# Altium footprint library IPC-7359 QFN_Sq_50P_Side_M.PcbLib: 92 footprints (part 5 of 6)
Each footprint in its own frame and in the unit in brackets; x right, y up, seen from the top. Pads: shape width x height; smd on the part's side, far side on the other; paste and mask are expansions set on the pad; w line width, h text height; cw(c..) or ccw(c..) is an arc to the next point about the centre after c.
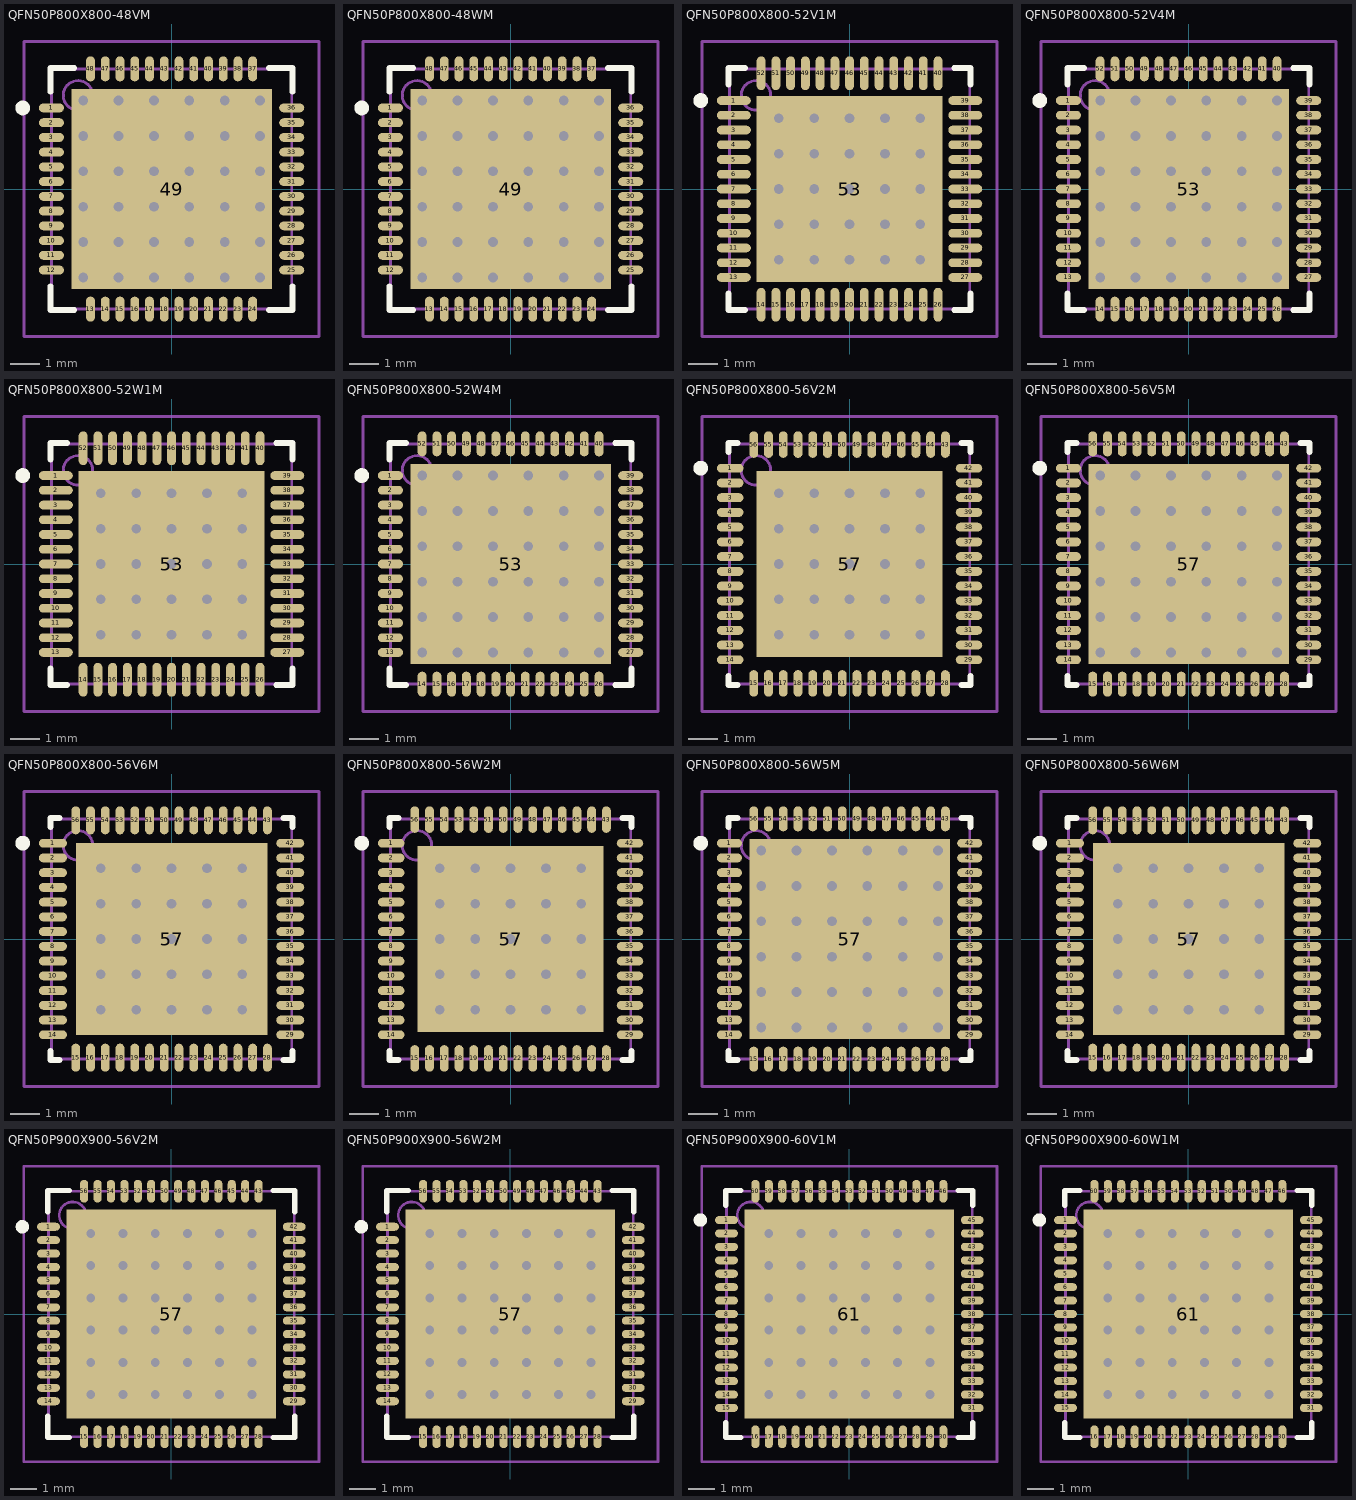
[diagram p4: the footprints below, top view; thin cyan lines are the x and y axes]

## QFN50P800X800-48VM [mm] "QFN, 48-Leads, Body 8x8mm, Pitch 0.5mm, IPC Low Density"
height 1
pads (49):
  oval 0.85x0.3 smd: 1(-4.075,2.75) 2(-4.075,2.25) 3(-4.075,1.75) 4(-4.075,1.25) 5(-4.075,0.75) 6(-4.075,0.25) 7(-4.075,-0.25) 8(-4.075,-0.75) 9(-4.075,-1.25) 10(-4.075,-1.75) 11(-4.075,-2.25) 12(-4.075,-2.75) 25(4.075,-2.75) 26(4.075,-2.25) 27(4.075,-1.75) 28(4.075,-1.25) 29(4.075,-0.75) 30(4.075,-0.25) 31(4.075,0.25) 32(4.075,0.75) 33(4.075,1.25) 34(4.075,1.75) 35(4.075,2.25) 36(4.075,2.75)
  oval 0.3x0.85 smd: 13(-2.75,-4.075) 14(-2.25,-4.075) 15(-1.75,-4.075) 16(-1.25,-4.075) 17(-0.75,-4.075) 18(-0.25,-4.075) 19(0.25,-4.075) 20(0.75,-4.075) 21(1.25,-4.075) 22(1.75,-4.075) 23(2.25,-4.075) 24(2.75,-4.075) 37(2.75,4.075) 38(2.25,4.075) 39(1.75,4.075) 40(1.25,4.075) 41(0.75,4.075) 42(0.25,4.075) 43(-0.25,4.075) 44(-0.75,4.075) 45(-1.25,4.075) 46(-1.75,4.075) 47(-2.25,4.075) 48(-2.75,4.075)
  rect 6.8x6.8 smd: 49(0,0)
via 3,-3 diameter 0.66 hole 0.33
via 1.8,-3 diameter 0.66 hole 0.33
via 0.6,-3 diameter 0.66 hole 0.33
via -0.6,-3 diameter 0.66 hole 0.33
via -1.8,-3 diameter 0.66 hole 0.33
via -3,-3 diameter 0.66 hole 0.33
via 3,-1.8 diameter 0.66 hole 0.33
via 1.8,-1.8 diameter 0.66 hole 0.33
via 0.6,-1.8 diameter 0.66 hole 0.33
via -0.6,-1.8 diameter 0.66 hole 0.33
via -1.8,-1.8 diameter 0.66 hole 0.33
via -3,-1.8 diameter 0.66 hole 0.33
via 3,-0.6 diameter 0.66 hole 0.33
via 1.8,-0.6 diameter 0.66 hole 0.33
via 0.6,-0.6 diameter 0.66 hole 0.33
via -0.6,-0.6 diameter 0.66 hole 0.33
via -1.8,-0.6 diameter 0.66 hole 0.33
via -3,-0.6 diameter 0.66 hole 0.33
via 3,0.6 diameter 0.66 hole 0.33
via 1.8,0.6 diameter 0.66 hole 0.33
via 0.6,0.6 diameter 0.66 hole 0.33
via -0.6,0.6 diameter 0.66 hole 0.33
via -1.8,0.6 diameter 0.66 hole 0.33
via -3,0.6 diameter 0.66 hole 0.33
via 3,1.8 diameter 0.66 hole 0.33
via 1.8,1.8 diameter 0.66 hole 0.33
via 0.6,1.8 diameter 0.66 hole 0.33
via -0.6,1.8 diameter 0.66 hole 0.33
via -1.8,1.8 diameter 0.66 hole 0.33
via -3,1.8 diameter 0.66 hole 0.33
via 3,3 diameter 0.66 hole 0.33
via 1.8,3 diameter 0.66 hole 0.33
via 0.6,3 diameter 0.66 hole 0.33
via -0.6,3 diameter 0.66 hole 0.33
via -1.8,3 diameter 0.66 hole 0.33
via -3,3 diameter 0.66 hole 0.33
Top Overlay:
  circle w0.25: c-5.05,2.75 r0.125
  lines w0.2: -4.1,-3.3 -4.1,-4.1 -3.3,-4.1 ; -4.1,3.3 -4.1,4.1 -3.3,4.1 ; 3.3,-4.1 4.1,-4.1 4.1,-3.3 ; 3.3,4.1 4.1,4.1 4.1,3.3
Mechanical 13:
  circle w0.1: c-3.175,3.175 r0.5
  lines w0.1: -4.075,-4.075 4.075,-4.075 4.075,4.075 -4.075,4.075 -4.075,-4.075
Mechanical 15:
  lines w0.1: -0.5,0 0.5,0 ; 0,-0.5 0,0.5 ; -5,-5 5,-5 5,5 -5,5 -5,-5
3D body: height 1, standoff 0, extent -4.075,-4.075 4.075,4.075

## QFN50P800X800-48WM [mm] "QFN, 48-Leads, Body 8x8mm, Pitch 0.5mm, IPC Low Density"
height 0.8
pads (49):
  oval 0.85x0.3 smd: 1(-4.075,2.75) 2(-4.075,2.25) 3(-4.075,1.75) 4(-4.075,1.25) 5(-4.075,0.75) 6(-4.075,0.25) 7(-4.075,-0.25) 8(-4.075,-0.75) 9(-4.075,-1.25) 10(-4.075,-1.75) 11(-4.075,-2.25) 12(-4.075,-2.75) 25(4.075,-2.75) 26(4.075,-2.25) 27(4.075,-1.75) 28(4.075,-1.25) 29(4.075,-0.75) 30(4.075,-0.25) 31(4.075,0.25) 32(4.075,0.75) 33(4.075,1.25) 34(4.075,1.75) 35(4.075,2.25) 36(4.075,2.75)
  oval 0.3x0.85 smd: 13(-2.75,-4.075) 14(-2.25,-4.075) 15(-1.75,-4.075) 16(-1.25,-4.075) 17(-0.75,-4.075) 18(-0.25,-4.075) 19(0.25,-4.075) 20(0.75,-4.075) 21(1.25,-4.075) 22(1.75,-4.075) 23(2.25,-4.075) 24(2.75,-4.075) 37(2.75,4.075) 38(2.25,4.075) 39(1.75,4.075) 40(1.25,4.075) 41(0.75,4.075) 42(0.25,4.075) 43(-0.25,4.075) 44(-0.75,4.075) 45(-1.25,4.075) 46(-1.75,4.075) 47(-2.25,4.075) 48(-2.75,4.075)
  rect 6.8x6.8 smd: 49(0,0)
via 3,-3 diameter 0.66 hole 0.33
via 1.8,-3 diameter 0.66 hole 0.33
via 0.6,-3 diameter 0.66 hole 0.33
via -0.6,-3 diameter 0.66 hole 0.33
via -1.8,-3 diameter 0.66 hole 0.33
via -3,-3 diameter 0.66 hole 0.33
via 3,-1.8 diameter 0.66 hole 0.33
via 1.8,-1.8 diameter 0.66 hole 0.33
via 0.6,-1.8 diameter 0.66 hole 0.33
via -0.6,-1.8 diameter 0.66 hole 0.33
via -1.8,-1.8 diameter 0.66 hole 0.33
via -3,-1.8 diameter 0.66 hole 0.33
via 3,-0.6 diameter 0.66 hole 0.33
via 1.8,-0.6 diameter 0.66 hole 0.33
via 0.6,-0.6 diameter 0.66 hole 0.33
via -0.6,-0.6 diameter 0.66 hole 0.33
via -1.8,-0.6 diameter 0.66 hole 0.33
via -3,-0.6 diameter 0.66 hole 0.33
via 3,0.6 diameter 0.66 hole 0.33
via 1.8,0.6 diameter 0.66 hole 0.33
via 0.6,0.6 diameter 0.66 hole 0.33
via -0.6,0.6 diameter 0.66 hole 0.33
via -1.8,0.6 diameter 0.66 hole 0.33
via -3,0.6 diameter 0.66 hole 0.33
via 3,1.8 diameter 0.66 hole 0.33
via 1.8,1.8 diameter 0.66 hole 0.33
via 0.6,1.8 diameter 0.66 hole 0.33
via -0.6,1.8 diameter 0.66 hole 0.33
via -1.8,1.8 diameter 0.66 hole 0.33
via -3,1.8 diameter 0.66 hole 0.33
via 3,3 diameter 0.66 hole 0.33
via 1.8,3 diameter 0.66 hole 0.33
via 0.6,3 diameter 0.66 hole 0.33
via -0.6,3 diameter 0.66 hole 0.33
via -1.8,3 diameter 0.66 hole 0.33
via -3,3 diameter 0.66 hole 0.33
Top Overlay:
  circle w0.25: c-5.05,2.75 r0.125
  lines w0.2: -4.1,-3.3 -4.1,-4.1 -3.3,-4.1 ; -4.1,3.3 -4.1,4.1 -3.3,4.1 ; 3.3,-4.1 4.1,-4.1 4.1,-3.3 ; 3.3,4.1 4.1,4.1 4.1,3.3
Mechanical 13:
  circle w0.1: c-3.175,3.175 r0.5
  lines w0.1: -4.075,-4.075 4.075,-4.075 4.075,4.075 -4.075,4.075 -4.075,-4.075
Mechanical 15:
  lines w0.1: -0.5,0 0.5,0 ; 0,-0.5 0,0.5 ; -5,-5 5,-5 5,5 -5,5 -5,-5
3D body: height 0.8, standoff 0, extent -4.075,-4.075 4.075,4.075

## QFN50P800X800-52V1M [mm] "QFN, 52-Leads, Body 8x8mm, Pitch 0.5mm, IPC Low Density"
height 1
pads (53):
  oval 1.15x0.3 smd: 1(-3.925,3) 2(-3.925,2.5) 3(-3.925,2) 4(-3.925,1.5) 5(-3.925,1) 6(-3.925,0.5) 7(-3.925,0) 8(-3.925,-0.5) 9(-3.925,-1) 10(-3.925,-1.5) 11(-3.925,-2) 12(-3.925,-2.5) 13(-3.925,-3) 27(3.925,-3) 28(3.925,-2.5) 29(3.925,-2) 30(3.925,-1.5) 31(3.925,-1) 32(3.925,-0.5) 33(3.925,0) 34(3.925,0.5) 35(3.925,1) 36(3.925,1.5) 37(3.925,2) 38(3.925,2.5) 39(3.925,3)
  oval 0.3x1.15 smd: 14(-3,-3.925) 15(-2.5,-3.925) 16(-2,-3.925) 17(-1.5,-3.925) 18(-1,-3.925) 19(-0.5,-3.925) 20(0,-3.925) 21(0.5,-3.925) 22(1,-3.925) 23(1.5,-3.925) 24(2,-3.925) 25(2.5,-3.925) 26(3,-3.925) 40(3,3.925) 41(2.5,3.925) 42(2,3.925) 43(1.5,3.925) 44(1,3.925) 45(0.5,3.925) 46(0,3.925) 47(-0.5,3.925) 48(-1,3.925) 49(-1.5,3.925) 50(-2,3.925) 51(-2.5,3.925) 52(-3,3.925)
  rect 6.3x6.3 smd: 53(0,0)
via 2.4,-2.4 diameter 0.66 hole 0.33
via 1.2,-2.4 diameter 0.66 hole 0.33
via 0,-2.4 diameter 0.66 hole 0.33
via -1.2,-2.4 diameter 0.66 hole 0.33
via -2.4,-2.4 diameter 0.66 hole 0.33
via 2.4,-1.2 diameter 0.66 hole 0.33
via 1.2,-1.2 diameter 0.66 hole 0.33
via 0,-1.2 diameter 0.66 hole 0.33
via -1.2,-1.2 diameter 0.66 hole 0.33
via -2.4,-1.2 diameter 0.66 hole 0.33
via 2.4,0 diameter 0.66 hole 0.33
via 1.2,0 diameter 0.66 hole 0.33
via 0,0 diameter 0.66 hole 0.33
via -1.2,0 diameter 0.66 hole 0.33
via -2.4,0 diameter 0.66 hole 0.33
via 2.4,1.2 diameter 0.66 hole 0.33
via 1.2,1.2 diameter 0.66 hole 0.33
via 0,1.2 diameter 0.66 hole 0.33
via -1.2,1.2 diameter 0.66 hole 0.33
via -2.4,1.2 diameter 0.66 hole 0.33
via 2.4,2.4 diameter 0.66 hole 0.33
via 1.2,2.4 diameter 0.66 hole 0.33
via 0,2.4 diameter 0.66 hole 0.33
via -1.2,2.4 diameter 0.66 hole 0.33
via -2.4,2.4 diameter 0.66 hole 0.33
Top Overlay:
  circle w0.25: c-5.05,3 r0.125
  lines w0.2: -4.1,-3.55 -4.1,-4.1 -3.55,-4.1 ; -4.1,3.55 -4.1,4.1 -3.55,4.1 ; 3.55,-4.1 4.1,-4.1 4.1,-3.55 ; 3.55,4.1 4.1,4.1 4.1,3.55
Mechanical 13:
  circle w0.1: c-3.175,3.175 r0.5
  lines w0.1: -4.075,-4.075 4.075,-4.075 4.075,4.075 -4.075,4.075 -4.075,-4.075
Mechanical 15:
  lines w0.1: -0.5,0 0.5,0 ; 0,-0.5 0,0.5 ; -5,-5 5,-5 5,5 -5,5 -5,-5
3D body: height 1, standoff 0, extent -4.075,-4.075 4.075,4.075

## QFN50P800X800-52V4M [mm] "QFN, 52-Leads, Body 8x8mm, Pitch 0.5mm, IPC Low Density"
height 1
pads (53):
  oval 0.85x0.3 smd: 1(-4.075,3) 2(-4.075,2.5) 3(-4.075,2) 4(-4.075,1.5) 5(-4.075,1) 6(-4.075,0.5) 7(-4.075,0) 8(-4.075,-0.5) 9(-4.075,-1) 10(-4.075,-1.5) 11(-4.075,-2) 12(-4.075,-2.5) 13(-4.075,-3) 27(4.075,-3) 28(4.075,-2.5) 29(4.075,-2) 30(4.075,-1.5) 31(4.075,-1) 32(4.075,-0.5) 33(4.075,0) 34(4.075,0.5) 35(4.075,1) 36(4.075,1.5) 37(4.075,2) 38(4.075,2.5) 39(4.075,3)
  oval 0.3x0.85 smd: 14(-3,-4.075) 15(-2.5,-4.075) 16(-2,-4.075) 17(-1.5,-4.075) 18(-1,-4.075) 19(-0.5,-4.075) 20(0,-4.075) 21(0.5,-4.075) 22(1,-4.075) 23(1.5,-4.075) 24(2,-4.075) 25(2.5,-4.075) 26(3,-4.075) 40(3,4.075) 41(2.5,4.075) 42(2,4.075) 43(1.5,4.075) 44(1,4.075) 45(0.5,4.075) 46(0,4.075) 47(-0.5,4.075) 48(-1,4.075) 49(-1.5,4.075) 50(-2,4.075) 51(-2.5,4.075) 52(-3,4.075)
  rect 6.8x6.8 smd: 53(0,0)
via 3,-3 diameter 0.66 hole 0.33
via 1.8,-3 diameter 0.66 hole 0.33
via 0.6,-3 diameter 0.66 hole 0.33
via -0.6,-3 diameter 0.66 hole 0.33
via -1.8,-3 diameter 0.66 hole 0.33
via -3,-3 diameter 0.66 hole 0.33
via 3,-1.8 diameter 0.66 hole 0.33
via 1.8,-1.8 diameter 0.66 hole 0.33
via 0.6,-1.8 diameter 0.66 hole 0.33
via -0.6,-1.8 diameter 0.66 hole 0.33
via -1.8,-1.8 diameter 0.66 hole 0.33
via -3,-1.8 diameter 0.66 hole 0.33
via 3,-0.6 diameter 0.66 hole 0.33
via 1.8,-0.6 diameter 0.66 hole 0.33
via 0.6,-0.6 diameter 0.66 hole 0.33
via -0.6,-0.6 diameter 0.66 hole 0.33
via -1.8,-0.6 diameter 0.66 hole 0.33
via -3,-0.6 diameter 0.66 hole 0.33
via 3,0.6 diameter 0.66 hole 0.33
via 1.8,0.6 diameter 0.66 hole 0.33
via 0.6,0.6 diameter 0.66 hole 0.33
via -0.6,0.6 diameter 0.66 hole 0.33
via -1.8,0.6 diameter 0.66 hole 0.33
via -3,0.6 diameter 0.66 hole 0.33
via 3,1.8 diameter 0.66 hole 0.33
via 1.8,1.8 diameter 0.66 hole 0.33
via 0.6,1.8 diameter 0.66 hole 0.33
via -0.6,1.8 diameter 0.66 hole 0.33
via -1.8,1.8 diameter 0.66 hole 0.33
via -3,1.8 diameter 0.66 hole 0.33
via 3,3 diameter 0.66 hole 0.33
via 1.8,3 diameter 0.66 hole 0.33
via 0.6,3 diameter 0.66 hole 0.33
via -0.6,3 diameter 0.66 hole 0.33
via -1.8,3 diameter 0.66 hole 0.33
via -3,3 diameter 0.66 hole 0.33
Top Overlay:
  circle w0.25: c-5.05,3 r0.125
  lines w0.2: -4.1,-3.55 -4.1,-4.1 -3.55,-4.1 ; -4.1,3.55 -4.1,4.1 -3.55,4.1 ; 3.55,-4.1 4.1,-4.1 4.1,-3.55 ; 3.55,4.1 4.1,4.1 4.1,3.55
Mechanical 13:
  circle w0.1: c-3.175,3.175 r0.5
  lines w0.1: -4.075,-4.075 4.075,-4.075 4.075,4.075 -4.075,4.075 -4.075,-4.075
Mechanical 15:
  lines w0.1: -0.5,0 0.5,0 ; 0,-0.5 0,0.5 ; -5,-5 5,-5 5,5 -5,5 -5,-5
3D body: height 1, standoff 0, extent -4.075,-4.075 4.075,4.075

## QFN50P800X800-52W1M [mm] "QFN, 52-Leads, Body 8x8mm, Pitch 0.5mm, IPC Low Density"
height 0.8
pads (53):
  oval 1.15x0.3 smd: 1(-3.925,3) 2(-3.925,2.5) 3(-3.925,2) 4(-3.925,1.5) 5(-3.925,1) 6(-3.925,0.5) 7(-3.925,0) 8(-3.925,-0.5) 9(-3.925,-1) 10(-3.925,-1.5) 11(-3.925,-2) 12(-3.925,-2.5) 13(-3.925,-3) 27(3.925,-3) 28(3.925,-2.5) 29(3.925,-2) 30(3.925,-1.5) 31(3.925,-1) 32(3.925,-0.5) 33(3.925,0) 34(3.925,0.5) 35(3.925,1) 36(3.925,1.5) 37(3.925,2) 38(3.925,2.5) 39(3.925,3)
  oval 0.3x1.15 smd: 14(-3,-3.925) 15(-2.5,-3.925) 16(-2,-3.925) 17(-1.5,-3.925) 18(-1,-3.925) 19(-0.5,-3.925) 20(0,-3.925) 21(0.5,-3.925) 22(1,-3.925) 23(1.5,-3.925) 24(2,-3.925) 25(2.5,-3.925) 26(3,-3.925) 40(3,3.925) 41(2.5,3.925) 42(2,3.925) 43(1.5,3.925) 44(1,3.925) 45(0.5,3.925) 46(0,3.925) 47(-0.5,3.925) 48(-1,3.925) 49(-1.5,3.925) 50(-2,3.925) 51(-2.5,3.925) 52(-3,3.925)
  rect 6.3x6.3 smd: 53(0,0)
via 2.4,-2.4 diameter 0.66 hole 0.33
via 1.2,-2.4 diameter 0.66 hole 0.33
via 0,-2.4 diameter 0.66 hole 0.33
via -1.2,-2.4 diameter 0.66 hole 0.33
via -2.4,-2.4 diameter 0.66 hole 0.33
via 2.4,-1.2 diameter 0.66 hole 0.33
via 1.2,-1.2 diameter 0.66 hole 0.33
via 0,-1.2 diameter 0.66 hole 0.33
via -1.2,-1.2 diameter 0.66 hole 0.33
via -2.4,-1.2 diameter 0.66 hole 0.33
via 2.4,0 diameter 0.66 hole 0.33
via 1.2,0 diameter 0.66 hole 0.33
via 0,0 diameter 0.66 hole 0.33
via -1.2,0 diameter 0.66 hole 0.33
via -2.4,0 diameter 0.66 hole 0.33
via 2.4,1.2 diameter 0.66 hole 0.33
via 1.2,1.2 diameter 0.66 hole 0.33
via 0,1.2 diameter 0.66 hole 0.33
via -1.2,1.2 diameter 0.66 hole 0.33
via -2.4,1.2 diameter 0.66 hole 0.33
via 2.4,2.4 diameter 0.66 hole 0.33
via 1.2,2.4 diameter 0.66 hole 0.33
via 0,2.4 diameter 0.66 hole 0.33
via -1.2,2.4 diameter 0.66 hole 0.33
via -2.4,2.4 diameter 0.66 hole 0.33
Top Overlay:
  circle w0.25: c-5.05,3 r0.125
  lines w0.2: -4.1,-3.55 -4.1,-4.1 -3.55,-4.1 ; -4.1,3.55 -4.1,4.1 -3.55,4.1 ; 3.55,-4.1 4.1,-4.1 4.1,-3.55 ; 3.55,4.1 4.1,4.1 4.1,3.55
Mechanical 13:
  circle w0.1: c-3.175,3.175 r0.5
  lines w0.1: -4.075,-4.075 4.075,-4.075 4.075,4.075 -4.075,4.075 -4.075,-4.075
Mechanical 15:
  lines w0.1: -0.5,0 0.5,0 ; 0,-0.5 0,0.5 ; -5,-5 5,-5 5,5 -5,5 -5,-5
3D body: height 0.8, standoff 0, extent -4.075,-4.075 4.075,4.075

## QFN50P800X800-52W4M [mm] "QFN, 52-Leads, Body 8x8mm, Pitch 0.5mm, IPC Low Density"
height 0.8
pads (53):
  oval 0.85x0.3 smd: 1(-4.075,3) 2(-4.075,2.5) 3(-4.075,2) 4(-4.075,1.5) 5(-4.075,1) 6(-4.075,0.5) 7(-4.075,0) 8(-4.075,-0.5) 9(-4.075,-1) 10(-4.075,-1.5) 11(-4.075,-2) 12(-4.075,-2.5) 13(-4.075,-3) 27(4.075,-3) 28(4.075,-2.5) 29(4.075,-2) 30(4.075,-1.5) 31(4.075,-1) 32(4.075,-0.5) 33(4.075,0) 34(4.075,0.5) 35(4.075,1) 36(4.075,1.5) 37(4.075,2) 38(4.075,2.5) 39(4.075,3)
  oval 0.3x0.85 smd: 14(-3,-4.075) 15(-2.5,-4.075) 16(-2,-4.075) 17(-1.5,-4.075) 18(-1,-4.075) 19(-0.5,-4.075) 20(0,-4.075) 21(0.5,-4.075) 22(1,-4.075) 23(1.5,-4.075) 24(2,-4.075) 25(2.5,-4.075) 26(3,-4.075) 40(3,4.075) 41(2.5,4.075) 42(2,4.075) 43(1.5,4.075) 44(1,4.075) 45(0.5,4.075) 46(0,4.075) 47(-0.5,4.075) 48(-1,4.075) 49(-1.5,4.075) 50(-2,4.075) 51(-2.5,4.075) 52(-3,4.075)
  rect 6.8x6.8 smd: 53(0,0)
via 3,-3 diameter 0.66 hole 0.33
via 1.8,-3 diameter 0.66 hole 0.33
via 0.6,-3 diameter 0.66 hole 0.33
via -0.6,-3 diameter 0.66 hole 0.33
via -1.8,-3 diameter 0.66 hole 0.33
via -3,-3 diameter 0.66 hole 0.33
via 3,-1.8 diameter 0.66 hole 0.33
via 1.8,-1.8 diameter 0.66 hole 0.33
via 0.6,-1.8 diameter 0.66 hole 0.33
via -0.6,-1.8 diameter 0.66 hole 0.33
via -1.8,-1.8 diameter 0.66 hole 0.33
via -3,-1.8 diameter 0.66 hole 0.33
via 3,-0.6 diameter 0.66 hole 0.33
via 1.8,-0.6 diameter 0.66 hole 0.33
via 0.6,-0.6 diameter 0.66 hole 0.33
via -0.6,-0.6 diameter 0.66 hole 0.33
via -1.8,-0.6 diameter 0.66 hole 0.33
via -3,-0.6 diameter 0.66 hole 0.33
via 3,0.6 diameter 0.66 hole 0.33
via 1.8,0.6 diameter 0.66 hole 0.33
via 0.6,0.6 diameter 0.66 hole 0.33
via -0.6,0.6 diameter 0.66 hole 0.33
via -1.8,0.6 diameter 0.66 hole 0.33
via -3,0.6 diameter 0.66 hole 0.33
via 3,1.8 diameter 0.66 hole 0.33
via 1.8,1.8 diameter 0.66 hole 0.33
via 0.6,1.8 diameter 0.66 hole 0.33
via -0.6,1.8 diameter 0.66 hole 0.33
via -1.8,1.8 diameter 0.66 hole 0.33
via -3,1.8 diameter 0.66 hole 0.33
via 3,3 diameter 0.66 hole 0.33
via 1.8,3 diameter 0.66 hole 0.33
via 0.6,3 diameter 0.66 hole 0.33
via -0.6,3 diameter 0.66 hole 0.33
via -1.8,3 diameter 0.66 hole 0.33
via -3,3 diameter 0.66 hole 0.33
Top Overlay:
  circle w0.25: c-5.05,3 r0.125
  lines w0.2: -4.1,-3.55 -4.1,-4.1 -3.55,-4.1 ; -4.1,3.55 -4.1,4.1 -3.55,4.1 ; 3.55,-4.1 4.1,-4.1 4.1,-3.55 ; 3.55,4.1 4.1,4.1 4.1,3.55
Mechanical 13:
  circle w0.1: c-3.175,3.175 r0.5
  lines w0.1: -4.075,-4.075 4.075,-4.075 4.075,4.075 -4.075,4.075 -4.075,-4.075
Mechanical 15:
  lines w0.1: -0.5,0 0.5,0 ; 0,-0.5 0,0.5 ; -5,-5 5,-5 5,5 -5,5 -5,-5
3D body: height 0.8, standoff 0, extent -4.075,-4.075 4.075,4.075

## QFN50P800X800-56V2M [mm] "QFN, 56-Leads, Body 8x8mm, Pitch 0.5mm, IPC Low Density"
height 1
pads (57):
  oval 0.9x0.3 smd: 1(-4.05,3.25) 2(-4.05,2.75) 3(-4.05,2.25) 4(-4.05,1.75) 5(-4.05,1.25) 6(-4.05,0.75) 7(-4.05,0.25) 8(-4.05,-0.25) 9(-4.05,-0.75) 10(-4.05,-1.25) 11(-4.05,-1.75) 12(-4.05,-2.25) 13(-4.05,-2.75) 14(-4.05,-3.25) 29(4.05,-3.25) 30(4.05,-2.75) 31(4.05,-2.25) 32(4.05,-1.75) 33(4.05,-1.25) 34(4.05,-0.75) 35(4.05,-0.25) 36(4.05,0.25) 37(4.05,0.75) 38(4.05,1.25) 39(4.05,1.75) 40(4.05,2.25) 41(4.05,2.75) 42(4.05,3.25)
  oval 0.3x0.9 smd: 15(-3.25,-4.05) 16(-2.75,-4.05) 17(-2.25,-4.05) 18(-1.75,-4.05) 19(-1.25,-4.05) 20(-0.75,-4.05) 21(-0.25,-4.05) 22(0.25,-4.05) 23(0.75,-4.05) 24(1.25,-4.05) 25(1.75,-4.05) 26(2.25,-4.05) 27(2.75,-4.05) 28(3.25,-4.05) 43(3.25,4.05) 44(2.75,4.05) 45(2.25,4.05) 46(1.75,4.05) 47(1.25,4.05) 48(0.75,4.05) 49(0.25,4.05) 50(-0.25,4.05) 51(-0.75,4.05) 52(-1.25,4.05) 53(-1.75,4.05) 54(-2.25,4.05) 55(-2.75,4.05) 56(-3.25,4.05)
  rect 6.3x6.3 smd: 57(0,0)
via 2.4,-2.4 diameter 0.66 hole 0.33
via 1.2,-2.4 diameter 0.66 hole 0.33
via 0,-2.4 diameter 0.66 hole 0.33
via -1.2,-2.4 diameter 0.66 hole 0.33
via -2.4,-2.4 diameter 0.66 hole 0.33
via 2.4,-1.2 diameter 0.66 hole 0.33
via 1.2,-1.2 diameter 0.66 hole 0.33
via 0,-1.2 diameter 0.66 hole 0.33
via -1.2,-1.2 diameter 0.66 hole 0.33
via -2.4,-1.2 diameter 0.66 hole 0.33
via 2.4,0 diameter 0.66 hole 0.33
via 1.2,0 diameter 0.66 hole 0.33
via 0,0 diameter 0.66 hole 0.33
via -1.2,0 diameter 0.66 hole 0.33
via -2.4,0 diameter 0.66 hole 0.33
via 2.4,1.2 diameter 0.66 hole 0.33
via 1.2,1.2 diameter 0.66 hole 0.33
via 0,1.2 diameter 0.66 hole 0.33
via -1.2,1.2 diameter 0.66 hole 0.33
via -2.4,1.2 diameter 0.66 hole 0.33
via 2.4,2.4 diameter 0.66 hole 0.33
via 1.2,2.4 diameter 0.66 hole 0.33
via 0,2.4 diameter 0.66 hole 0.33
via -1.2,2.4 diameter 0.66 hole 0.33
via -2.4,2.4 diameter 0.66 hole 0.33
Top Overlay:
  circle w0.25: c-5.05,3.25 r0.125
  lines w0.2: -4.1,-3.8 -4.1,-4.1 -3.8,-4.1 ; -4.1,3.8 -4.1,4.1 -3.8,4.1 ; 3.8,-4.1 4.1,-4.1 4.1,-3.8 ; 3.8,4.1 4.1,4.1 4.1,3.8
Mechanical 13:
  circle w0.1: c-3.175,3.175 r0.5
  lines w0.1: -4.075,-4.075 4.075,-4.075 4.075,4.075 -4.075,4.075 -4.075,-4.075
Mechanical 15:
  lines w0.1: -0.5,0 0.5,0 ; 0,-0.5 0,0.5 ; -5,-5 5,-5 5,5 -5,5 -5,-5
3D body: height 1, standoff 0, extent -4.075,-4.075 4.075,4.075

## QFN50P800X800-56V5M [mm] "QFN, 56-Leads, Body 8x8mm, Pitch 0.5mm, IPC Low Density"
height 1
pads (57):
  oval 0.85x0.3 smd: 1(-4.075,3.25) 2(-4.075,2.75) 3(-4.075,2.25) 4(-4.075,1.75) 5(-4.075,1.25) 6(-4.075,0.75) 7(-4.075,0.25) 8(-4.075,-0.25) 9(-4.075,-0.75) 10(-4.075,-1.25) 11(-4.075,-1.75) 12(-4.075,-2.25) 13(-4.075,-2.75) 14(-4.075,-3.25) 29(4.075,-3.25) 30(4.075,-2.75) 31(4.075,-2.25) 32(4.075,-1.75) 33(4.075,-1.25) 34(4.075,-0.75) 35(4.075,-0.25) 36(4.075,0.25) 37(4.075,0.75) 38(4.075,1.25) 39(4.075,1.75) 40(4.075,2.25) 41(4.075,2.75) 42(4.075,3.25)
  oval 0.3x0.85 smd: 15(-3.25,-4.075) 16(-2.75,-4.075) 17(-2.25,-4.075) 18(-1.75,-4.075) 19(-1.25,-4.075) 20(-0.75,-4.075) 21(-0.25,-4.075) 22(0.25,-4.075) 23(0.75,-4.075) 24(1.25,-4.075) 25(1.75,-4.075) 26(2.25,-4.075) 27(2.75,-4.075) 28(3.25,-4.075) 43(3.25,4.075) 44(2.75,4.075) 45(2.25,4.075) 46(1.75,4.075) 47(1.25,4.075) 48(0.75,4.075) 49(0.25,4.075) 50(-0.25,4.075) 51(-0.75,4.075) 52(-1.25,4.075) 53(-1.75,4.075) 54(-2.25,4.075) 55(-2.75,4.075) 56(-3.25,4.075)
  rect 6.8x6.8 smd: 57(0,0)
via 3,-3 diameter 0.66 hole 0.33
via 1.8,-3 diameter 0.66 hole 0.33
via 0.6,-3 diameter 0.66 hole 0.33
via -0.6,-3 diameter 0.66 hole 0.33
via -1.8,-3 diameter 0.66 hole 0.33
via -3,-3 diameter 0.66 hole 0.33
via 3,-1.8 diameter 0.66 hole 0.33
via 1.8,-1.8 diameter 0.66 hole 0.33
via 0.6,-1.8 diameter 0.66 hole 0.33
via -0.6,-1.8 diameter 0.66 hole 0.33
via -1.8,-1.8 diameter 0.66 hole 0.33
via -3,-1.8 diameter 0.66 hole 0.33
via 3,-0.6 diameter 0.66 hole 0.33
via 1.8,-0.6 diameter 0.66 hole 0.33
via 0.6,-0.6 diameter 0.66 hole 0.33
via -0.6,-0.6 diameter 0.66 hole 0.33
via -1.8,-0.6 diameter 0.66 hole 0.33
via -3,-0.6 diameter 0.66 hole 0.33
via 3,0.6 diameter 0.66 hole 0.33
via 1.8,0.6 diameter 0.66 hole 0.33
via 0.6,0.6 diameter 0.66 hole 0.33
via -0.6,0.6 diameter 0.66 hole 0.33
via -1.8,0.6 diameter 0.66 hole 0.33
via -3,0.6 diameter 0.66 hole 0.33
via 3,1.8 diameter 0.66 hole 0.33
via 1.8,1.8 diameter 0.66 hole 0.33
via 0.6,1.8 diameter 0.66 hole 0.33
via -0.6,1.8 diameter 0.66 hole 0.33
via -1.8,1.8 diameter 0.66 hole 0.33
via -3,1.8 diameter 0.66 hole 0.33
via 3,3 diameter 0.66 hole 0.33
via 1.8,3 diameter 0.66 hole 0.33
via 0.6,3 diameter 0.66 hole 0.33
via -0.6,3 diameter 0.66 hole 0.33
via -1.8,3 diameter 0.66 hole 0.33
via -3,3 diameter 0.66 hole 0.33
Top Overlay:
  circle w0.25: c-5.05,3.25 r0.125
  lines w0.2: -4.1,-3.8 -4.1,-4.1 -3.8,-4.1 ; -4.1,3.8 -4.1,4.1 -3.8,4.1 ; 3.8,-4.1 4.1,-4.1 4.1,-3.8 ; 3.8,4.1 4.1,4.1 4.1,3.8
Mechanical 13:
  circle w0.1: c-3.175,3.175 r0.5
  lines w0.1: -4.075,-4.075 4.075,-4.075 4.075,4.075 -4.075,4.075 -4.075,-4.075
Mechanical 15:
  lines w0.1: -0.5,0 0.5,0 ; 0,-0.5 0,0.5 ; -5,-5 5,-5 5,5 -5,5 -5,-5
3D body: height 1, standoff 0, extent -4.075,-4.075 4.075,4.075

## QFN50P800X800-56V6M [mm] "QFN, 56-Leads, Body 8x8mm, Pitch 0.5mm, IPC Low Density"
height 1
pads (57):
  oval 0.95x0.3 smd: 1(-4.025,3.25) 2(-4.025,2.75) 3(-4.025,2.25) 4(-4.025,1.75) 5(-4.025,1.25) 6(-4.025,0.75) 7(-4.025,0.25) 8(-4.025,-0.25) 9(-4.025,-0.75) 10(-4.025,-1.25) 11(-4.025,-1.75) 12(-4.025,-2.25) 13(-4.025,-2.75) 14(-4.025,-3.25) 29(4.025,-3.25) 30(4.025,-2.75) 31(4.025,-2.25) 32(4.025,-1.75) 33(4.025,-1.25) 34(4.025,-0.75) 35(4.025,-0.25) 36(4.025,0.25) 37(4.025,0.75) 38(4.025,1.25) 39(4.025,1.75) 40(4.025,2.25) 41(4.025,2.75) 42(4.025,3.25)
  oval 0.3x0.95 smd: 15(-3.25,-4.025) 16(-2.75,-4.025) 17(-2.25,-4.025) 18(-1.75,-4.025) 19(-1.25,-4.025) 20(-0.75,-4.025) 21(-0.25,-4.025) 22(0.25,-4.025) 23(0.75,-4.025) 24(1.25,-4.025) 25(1.75,-4.025) 26(2.25,-4.025) 27(2.75,-4.025) 28(3.25,-4.025) 43(3.25,4.025) 44(2.75,4.025) 45(2.25,4.025) 46(1.75,4.025) 47(1.25,4.025) 48(0.75,4.025) 49(0.25,4.025) 50(-0.25,4.025) 51(-0.75,4.025) 52(-1.25,4.025) 53(-1.75,4.025) 54(-2.25,4.025) 55(-2.75,4.025) 56(-3.25,4.025)
  rect 6.5x6.5 smd: 57(0,0)
via 2.4,-2.4 diameter 0.66 hole 0.33
via 1.2,-2.4 diameter 0.66 hole 0.33
via 0,-2.4 diameter 0.66 hole 0.33
via -1.2,-2.4 diameter 0.66 hole 0.33
via -2.4,-2.4 diameter 0.66 hole 0.33
via 2.4,-1.2 diameter 0.66 hole 0.33
via 1.2,-1.2 diameter 0.66 hole 0.33
via 0,-1.2 diameter 0.66 hole 0.33
via -1.2,-1.2 diameter 0.66 hole 0.33
via -2.4,-1.2 diameter 0.66 hole 0.33
via 2.4,0 diameter 0.66 hole 0.33
via 1.2,0 diameter 0.66 hole 0.33
via 0,0 diameter 0.66 hole 0.33
via -1.2,0 diameter 0.66 hole 0.33
via -2.4,0 diameter 0.66 hole 0.33
via 2.4,1.2 diameter 0.66 hole 0.33
via 1.2,1.2 diameter 0.66 hole 0.33
via 0,1.2 diameter 0.66 hole 0.33
via -1.2,1.2 diameter 0.66 hole 0.33
via -2.4,1.2 diameter 0.66 hole 0.33
via 2.4,2.4 diameter 0.66 hole 0.33
via 1.2,2.4 diameter 0.66 hole 0.33
via 0,2.4 diameter 0.66 hole 0.33
via -1.2,2.4 diameter 0.66 hole 0.33
via -2.4,2.4 diameter 0.66 hole 0.33
Top Overlay:
  circle w0.25: c-5.05,3.25 r0.125
  lines w0.2: -4.1,-3.8 -4.1,-4.1 -3.8,-4.1 ; -4.1,3.8 -4.1,4.1 -3.8,4.1 ; 3.8,-4.1 4.1,-4.1 4.1,-3.8 ; 3.8,4.1 4.1,4.1 4.1,3.8
Mechanical 13:
  circle w0.1: c-3.175,3.175 r0.5
  lines w0.1: -4.075,-4.075 4.075,-4.075 4.075,4.075 -4.075,4.075 -4.075,-4.075
Mechanical 15:
  lines w0.1: -0.5,0 0.5,0 ; 0,-0.5 0,0.5 ; -5,-5 5,-5 5,5 -5,5 -5,-5
3D body: height 1, standoff 0, extent -4.075,-4.075 4.075,4.075

## QFN50P800X800-56W2M [mm] "QFN, 56-Leads, Body 8x8mm, Pitch 0.5mm, IPC Low Density"
height 0.8
pads (57):
  oval 0.9x0.3 smd: 1(-4.05,3.25) 2(-4.05,2.75) 3(-4.05,2.25) 4(-4.05,1.75) 5(-4.05,1.25) 6(-4.05,0.75) 7(-4.05,0.25) 8(-4.05,-0.25) 9(-4.05,-0.75) 10(-4.05,-1.25) 11(-4.05,-1.75) 12(-4.05,-2.25) 13(-4.05,-2.75) 14(-4.05,-3.25) 29(4.05,-3.25) 30(4.05,-2.75) 31(4.05,-2.25) 32(4.05,-1.75) 33(4.05,-1.25) 34(4.05,-0.75) 35(4.05,-0.25) 36(4.05,0.25) 37(4.05,0.75) 38(4.05,1.25) 39(4.05,1.75) 40(4.05,2.25) 41(4.05,2.75) 42(4.05,3.25)
  oval 0.3x0.9 smd: 15(-3.25,-4.05) 16(-2.75,-4.05) 17(-2.25,-4.05) 18(-1.75,-4.05) 19(-1.25,-4.05) 20(-0.75,-4.05) 21(-0.25,-4.05) 22(0.25,-4.05) 23(0.75,-4.05) 24(1.25,-4.05) 25(1.75,-4.05) 26(2.25,-4.05) 27(2.75,-4.05) 28(3.25,-4.05) 43(3.25,4.05) 44(2.75,4.05) 45(2.25,4.05) 46(1.75,4.05) 47(1.25,4.05) 48(0.75,4.05) 49(0.25,4.05) 50(-0.25,4.05) 51(-0.75,4.05) 52(-1.25,4.05) 53(-1.75,4.05) 54(-2.25,4.05) 55(-2.75,4.05) 56(-3.25,4.05)
  rect 6.3x6.3 smd: 57(0,0)
via 2.4,-2.4 diameter 0.66 hole 0.33
via 1.2,-2.4 diameter 0.66 hole 0.33
via 0,-2.4 diameter 0.66 hole 0.33
via -1.2,-2.4 diameter 0.66 hole 0.33
via -2.4,-2.4 diameter 0.66 hole 0.33
via 2.4,-1.2 diameter 0.66 hole 0.33
via 1.2,-1.2 diameter 0.66 hole 0.33
via 0,-1.2 diameter 0.66 hole 0.33
via -1.2,-1.2 diameter 0.66 hole 0.33
via -2.4,-1.2 diameter 0.66 hole 0.33
via 2.4,0 diameter 0.66 hole 0.33
via 1.2,0 diameter 0.66 hole 0.33
via 0,0 diameter 0.66 hole 0.33
via -1.2,0 diameter 0.66 hole 0.33
via -2.4,0 diameter 0.66 hole 0.33
via 2.4,1.2 diameter 0.66 hole 0.33
via 1.2,1.2 diameter 0.66 hole 0.33
via 0,1.2 diameter 0.66 hole 0.33
via -1.2,1.2 diameter 0.66 hole 0.33
via -2.4,1.2 diameter 0.66 hole 0.33
via 2.4,2.4 diameter 0.66 hole 0.33
via 1.2,2.4 diameter 0.66 hole 0.33
via 0,2.4 diameter 0.66 hole 0.33
via -1.2,2.4 diameter 0.66 hole 0.33
via -2.4,2.4 diameter 0.66 hole 0.33
Top Overlay:
  circle w0.25: c-5.05,3.25 r0.125
  lines w0.2: -4.1,-3.8 -4.1,-4.1 -3.8,-4.1 ; -4.1,3.8 -4.1,4.1 -3.8,4.1 ; 3.8,-4.1 4.1,-4.1 4.1,-3.8 ; 3.8,4.1 4.1,4.1 4.1,3.8
Mechanical 13:
  circle w0.1: c-3.175,3.175 r0.5
  lines w0.1: -4.075,-4.075 4.075,-4.075 4.075,4.075 -4.075,4.075 -4.075,-4.075
Mechanical 15:
  lines w0.1: -0.5,0 0.5,0 ; 0,-0.5 0,0.5 ; -5,-5 5,-5 5,5 -5,5 -5,-5
3D body: height 0.8, standoff 0, extent -4.075,-4.075 4.075,4.075

## QFN50P800X800-56W5M [mm] "QFN, 56-Leads, Body 8x8mm, Pitch 0.5mm, IPC Low Density"
height 0.8
pads (57):
  oval 0.85x0.3 smd: 1(-4.075,3.25) 2(-4.075,2.75) 3(-4.075,2.25) 4(-4.075,1.75) 5(-4.075,1.25) 6(-4.075,0.75) 7(-4.075,0.25) 8(-4.075,-0.25) 9(-4.075,-0.75) 10(-4.075,-1.25) 11(-4.075,-1.75) 12(-4.075,-2.25) 13(-4.075,-2.75) 14(-4.075,-3.25) 29(4.075,-3.25) 30(4.075,-2.75) 31(4.075,-2.25) 32(4.075,-1.75) 33(4.075,-1.25) 34(4.075,-0.75) 35(4.075,-0.25) 36(4.075,0.25) 37(4.075,0.75) 38(4.075,1.25) 39(4.075,1.75) 40(4.075,2.25) 41(4.075,2.75) 42(4.075,3.25)
  oval 0.3x0.85 smd: 15(-3.25,-4.075) 16(-2.75,-4.075) 17(-2.25,-4.075) 18(-1.75,-4.075) 19(-1.25,-4.075) 20(-0.75,-4.075) 21(-0.25,-4.075) 22(0.25,-4.075) 23(0.75,-4.075) 24(1.25,-4.075) 25(1.75,-4.075) 26(2.25,-4.075) 27(2.75,-4.075) 28(3.25,-4.075) 43(3.25,4.075) 44(2.75,4.075) 45(2.25,4.075) 46(1.75,4.075) 47(1.25,4.075) 48(0.75,4.075) 49(0.25,4.075) 50(-0.25,4.075) 51(-0.75,4.075) 52(-1.25,4.075) 53(-1.75,4.075) 54(-2.25,4.075) 55(-2.75,4.075) 56(-3.25,4.075)
  rect 6.8x6.8 smd: 57(0,0)
via 3,-3 diameter 0.66 hole 0.33
via 1.8,-3 diameter 0.66 hole 0.33
via 0.6,-3 diameter 0.66 hole 0.33
via -0.6,-3 diameter 0.66 hole 0.33
via -1.8,-3 diameter 0.66 hole 0.33
via -3,-3 diameter 0.66 hole 0.33
via 3,-1.8 diameter 0.66 hole 0.33
via 1.8,-1.8 diameter 0.66 hole 0.33
via 0.6,-1.8 diameter 0.66 hole 0.33
via -0.6,-1.8 diameter 0.66 hole 0.33
via -1.8,-1.8 diameter 0.66 hole 0.33
via -3,-1.8 diameter 0.66 hole 0.33
via 3,-0.6 diameter 0.66 hole 0.33
via 1.8,-0.6 diameter 0.66 hole 0.33
via 0.6,-0.6 diameter 0.66 hole 0.33
via -0.6,-0.6 diameter 0.66 hole 0.33
via -1.8,-0.6 diameter 0.66 hole 0.33
via -3,-0.6 diameter 0.66 hole 0.33
via 3,0.6 diameter 0.66 hole 0.33
via 1.8,0.6 diameter 0.66 hole 0.33
via 0.6,0.6 diameter 0.66 hole 0.33
via -0.6,0.6 diameter 0.66 hole 0.33
via -1.8,0.6 diameter 0.66 hole 0.33
via -3,0.6 diameter 0.66 hole 0.33
via 3,1.8 diameter 0.66 hole 0.33
via 1.8,1.8 diameter 0.66 hole 0.33
via 0.6,1.8 diameter 0.66 hole 0.33
via -0.6,1.8 diameter 0.66 hole 0.33
via -1.8,1.8 diameter 0.66 hole 0.33
via -3,1.8 diameter 0.66 hole 0.33
via 3,3 diameter 0.66 hole 0.33
via 1.8,3 diameter 0.66 hole 0.33
via 0.6,3 diameter 0.66 hole 0.33
via -0.6,3 diameter 0.66 hole 0.33
via -1.8,3 diameter 0.66 hole 0.33
via -3,3 diameter 0.66 hole 0.33
Top Overlay:
  circle w0.25: c-5.05,3.25 r0.125
  lines w0.2: -4.1,-3.8 -4.1,-4.1 -3.8,-4.1 ; -4.1,3.8 -4.1,4.1 -3.8,4.1 ; 3.8,-4.1 4.1,-4.1 4.1,-3.8 ; 3.8,4.1 4.1,4.1 4.1,3.8
Mechanical 13:
  circle w0.1: c-3.175,3.175 r0.5
  lines w0.1: -4.075,-4.075 4.075,-4.075 4.075,4.075 -4.075,4.075 -4.075,-4.075
Mechanical 15:
  lines w0.1: -0.5,0 0.5,0 ; 0,-0.5 0,0.5 ; -5,-5 5,-5 5,5 -5,5 -5,-5
3D body: height 0.8, standoff 0, extent -4.075,-4.075 4.075,4.075

## QFN50P800X800-56W6M [mm] "QFN, 56-Leads, Body 8x8mm, Pitch 0.5mm, IPC Low Density"
height 0.8
pads (57):
  oval 0.95x0.3 smd: 1(-4.025,3.25) 2(-4.025,2.75) 3(-4.025,2.25) 4(-4.025,1.75) 5(-4.025,1.25) 6(-4.025,0.75) 7(-4.025,0.25) 8(-4.025,-0.25) 9(-4.025,-0.75) 10(-4.025,-1.25) 11(-4.025,-1.75) 12(-4.025,-2.25) 13(-4.025,-2.75) 14(-4.025,-3.25) 29(4.025,-3.25) 30(4.025,-2.75) 31(4.025,-2.25) 32(4.025,-1.75) 33(4.025,-1.25) 34(4.025,-0.75) 35(4.025,-0.25) 36(4.025,0.25) 37(4.025,0.75) 38(4.025,1.25) 39(4.025,1.75) 40(4.025,2.25) 41(4.025,2.75) 42(4.025,3.25)
  oval 0.3x0.95 smd: 15(-3.25,-4.025) 16(-2.75,-4.025) 17(-2.25,-4.025) 18(-1.75,-4.025) 19(-1.25,-4.025) 20(-0.75,-4.025) 21(-0.25,-4.025) 22(0.25,-4.025) 23(0.75,-4.025) 24(1.25,-4.025) 25(1.75,-4.025) 26(2.25,-4.025) 27(2.75,-4.025) 28(3.25,-4.025) 43(3.25,4.025) 44(2.75,4.025) 45(2.25,4.025) 46(1.75,4.025) 47(1.25,4.025) 48(0.75,4.025) 49(0.25,4.025) 50(-0.25,4.025) 51(-0.75,4.025) 52(-1.25,4.025) 53(-1.75,4.025) 54(-2.25,4.025) 55(-2.75,4.025) 56(-3.25,4.025)
  rect 6.5x6.5 smd: 57(0,0)
via 2.4,-2.4 diameter 0.66 hole 0.33
via 1.2,-2.4 diameter 0.66 hole 0.33
via 0,-2.4 diameter 0.66 hole 0.33
via -1.2,-2.4 diameter 0.66 hole 0.33
via -2.4,-2.4 diameter 0.66 hole 0.33
via 2.4,-1.2 diameter 0.66 hole 0.33
via 1.2,-1.2 diameter 0.66 hole 0.33
via 0,-1.2 diameter 0.66 hole 0.33
via -1.2,-1.2 diameter 0.66 hole 0.33
via -2.4,-1.2 diameter 0.66 hole 0.33
via 2.4,0 diameter 0.66 hole 0.33
via 1.2,0 diameter 0.66 hole 0.33
via 0,0 diameter 0.66 hole 0.33
via -1.2,0 diameter 0.66 hole 0.33
via -2.4,0 diameter 0.66 hole 0.33
via 2.4,1.2 diameter 0.66 hole 0.33
via 1.2,1.2 diameter 0.66 hole 0.33
via 0,1.2 diameter 0.66 hole 0.33
via -1.2,1.2 diameter 0.66 hole 0.33
via -2.4,1.2 diameter 0.66 hole 0.33
via 2.4,2.4 diameter 0.66 hole 0.33
via 1.2,2.4 diameter 0.66 hole 0.33
via 0,2.4 diameter 0.66 hole 0.33
via -1.2,2.4 diameter 0.66 hole 0.33
via -2.4,2.4 diameter 0.66 hole 0.33
Top Overlay:
  circle w0.25: c-5.05,3.25 r0.125
  lines w0.2: -4.1,-3.8 -4.1,-4.1 -3.8,-4.1 ; -4.1,3.8 -4.1,4.1 -3.8,4.1 ; 3.8,-4.1 4.1,-4.1 4.1,-3.8 ; 3.8,4.1 4.1,4.1 4.1,3.8
Mechanical 13:
  circle w0.1: c-3.175,3.175 r0.5
  lines w0.1: -4.075,-4.075 4.075,-4.075 4.075,4.075 -4.075,4.075 -4.075,-4.075
Mechanical 15:
  lines w0.1: -0.5,0 0.5,0 ; 0,-0.5 0,0.5 ; -5,-5 5,-5 5,5 -5,5 -5,-5
3D body: height 0.8, standoff 0, extent -4.075,-4.075 4.075,4.075

## QFN50P900X900-56V2M [mm] "QFN, 56-Leads, Body 9x9mm, Pitch 0.5mm, IPC Low Density"
height 1
pads (57):
  oval 0.85x0.3 smd: 1(-4.575,3.25) 2(-4.575,2.75) 3(-4.575,2.25) 4(-4.575,1.75) 5(-4.575,1.25) 6(-4.575,0.75) 7(-4.575,0.25) 8(-4.575,-0.25) 9(-4.575,-0.75) 10(-4.575,-1.25) 11(-4.575,-1.75) 12(-4.575,-2.25) 13(-4.575,-2.75) 14(-4.575,-3.25) 29(4.575,-3.25) 30(4.575,-2.75) 31(4.575,-2.25) 32(4.575,-1.75) 33(4.575,-1.25) 34(4.575,-0.75) 35(4.575,-0.25) 36(4.575,0.25) 37(4.575,0.75) 38(4.575,1.25) 39(4.575,1.75) 40(4.575,2.25) 41(4.575,2.75) 42(4.575,3.25)
  oval 0.3x0.85 smd: 15(-3.25,-4.575) 16(-2.75,-4.575) 17(-2.25,-4.575) 18(-1.75,-4.575) 19(-1.25,-4.575) 20(-0.75,-4.575) 21(-0.25,-4.575) 22(0.25,-4.575) 23(0.75,-4.575) 24(1.25,-4.575) 25(1.75,-4.575) 26(2.25,-4.575) 27(2.75,-4.575) 28(3.25,-4.575) 43(3.25,4.575) 44(2.75,4.575) 45(2.25,4.575) 46(1.75,4.575) 47(1.25,4.575) 48(0.75,4.575) 49(0.25,4.575) 50(-0.25,4.575) 51(-0.75,4.575) 52(-1.25,4.575) 53(-1.75,4.575) 54(-2.25,4.575) 55(-2.75,4.575) 56(-3.25,4.575)
  rect 7.8x7.8 smd: 57(0,0)
via 3,-3 diameter 0.66 hole 0.33
via 1.8,-3 diameter 0.66 hole 0.33
via 0.6,-3 diameter 0.66 hole 0.33
via -0.6,-3 diameter 0.66 hole 0.33
via -1.8,-3 diameter 0.66 hole 0.33
via -3,-3 diameter 0.66 hole 0.33
via 3,-1.8 diameter 0.66 hole 0.33
via 1.8,-1.8 diameter 0.66 hole 0.33
via 0.6,-1.8 diameter 0.66 hole 0.33
via -0.6,-1.8 diameter 0.66 hole 0.33
via -1.8,-1.8 diameter 0.66 hole 0.33
via -3,-1.8 diameter 0.66 hole 0.33
via 3,-0.6 diameter 0.66 hole 0.33
via 1.8,-0.6 diameter 0.66 hole 0.33
via 0.6,-0.6 diameter 0.66 hole 0.33
via -0.6,-0.6 diameter 0.66 hole 0.33
via -1.8,-0.6 diameter 0.66 hole 0.33
via -3,-0.6 diameter 0.66 hole 0.33
via 3,0.6 diameter 0.66 hole 0.33
via 1.8,0.6 diameter 0.66 hole 0.33
via 0.6,0.6 diameter 0.66 hole 0.33
via -0.6,0.6 diameter 0.66 hole 0.33
via -1.8,0.6 diameter 0.66 hole 0.33
via -3,0.6 diameter 0.66 hole 0.33
via 3,1.8 diameter 0.66 hole 0.33
via 1.8,1.8 diameter 0.66 hole 0.33
via 0.6,1.8 diameter 0.66 hole 0.33
via -0.6,1.8 diameter 0.66 hole 0.33
via -1.8,1.8 diameter 0.66 hole 0.33
via -3,1.8 diameter 0.66 hole 0.33
via 3,3 diameter 0.66 hole 0.33
via 1.8,3 diameter 0.66 hole 0.33
via 0.6,3 diameter 0.66 hole 0.33
via -0.6,3 diameter 0.66 hole 0.33
via -1.8,3 diameter 0.66 hole 0.33
via -3,3 diameter 0.66 hole 0.33
Top Overlay:
  circle w0.25: c-5.55,3.25 r0.125
  lines w0.2: -4.6,-3.8 -4.6,-4.6 -3.8,-4.6 ; -4.6,3.8 -4.6,4.6 -3.8,4.6 ; 3.8,-4.6 4.6,-4.6 4.6,-3.8 ; 3.8,4.6 4.6,4.6 4.6,3.8
Mechanical 13:
  circle w0.1: c-3.675,3.675 r0.5
  lines w0.1: -4.575,-4.575 4.575,-4.575 4.575,4.575 -4.575,4.575 -4.575,-4.575
Mechanical 15:
  lines w0.1: -0.5,0 0.5,0 ; 0,-0.5 0,0.5 ; -5.5,-5.5 5.5,-5.5 5.5,5.5 -5.5,5.5 -5.5,-5.5
3D body: height 1, standoff 0, extent -4.575,-4.575 4.575,4.575

## QFN50P900X900-56W2M [mm] "QFN, 56-Leads, Body 9x9mm, Pitch 0.5mm, IPC Low Density"
height 0.8
pads (57):
  oval 0.85x0.3 smd: 1(-4.575,3.25) 2(-4.575,2.75) 3(-4.575,2.25) 4(-4.575,1.75) 5(-4.575,1.25) 6(-4.575,0.75) 7(-4.575,0.25) 8(-4.575,-0.25) 9(-4.575,-0.75) 10(-4.575,-1.25) 11(-4.575,-1.75) 12(-4.575,-2.25) 13(-4.575,-2.75) 14(-4.575,-3.25) 29(4.575,-3.25) 30(4.575,-2.75) 31(4.575,-2.25) 32(4.575,-1.75) 33(4.575,-1.25) 34(4.575,-0.75) 35(4.575,-0.25) 36(4.575,0.25) 37(4.575,0.75) 38(4.575,1.25) 39(4.575,1.75) 40(4.575,2.25) 41(4.575,2.75) 42(4.575,3.25)
  oval 0.3x0.85 smd: 15(-3.25,-4.575) 16(-2.75,-4.575) 17(-2.25,-4.575) 18(-1.75,-4.575) 19(-1.25,-4.575) 20(-0.75,-4.575) 21(-0.25,-4.575) 22(0.25,-4.575) 23(0.75,-4.575) 24(1.25,-4.575) 25(1.75,-4.575) 26(2.25,-4.575) 27(2.75,-4.575) 28(3.25,-4.575) 43(3.25,4.575) 44(2.75,4.575) 45(2.25,4.575) 46(1.75,4.575) 47(1.25,4.575) 48(0.75,4.575) 49(0.25,4.575) 50(-0.25,4.575) 51(-0.75,4.575) 52(-1.25,4.575) 53(-1.75,4.575) 54(-2.25,4.575) 55(-2.75,4.575) 56(-3.25,4.575)
  rect 7.8x7.8 smd: 57(0,0)
via 3,-3 diameter 0.66 hole 0.33
via 1.8,-3 diameter 0.66 hole 0.33
via 0.6,-3 diameter 0.66 hole 0.33
via -0.6,-3 diameter 0.66 hole 0.33
via -1.8,-3 diameter 0.66 hole 0.33
via -3,-3 diameter 0.66 hole 0.33
via 3,-1.8 diameter 0.66 hole 0.33
via 1.8,-1.8 diameter 0.66 hole 0.33
via 0.6,-1.8 diameter 0.66 hole 0.33
via -0.6,-1.8 diameter 0.66 hole 0.33
via -1.8,-1.8 diameter 0.66 hole 0.33
via -3,-1.8 diameter 0.66 hole 0.33
via 3,-0.6 diameter 0.66 hole 0.33
via 1.8,-0.6 diameter 0.66 hole 0.33
via 0.6,-0.6 diameter 0.66 hole 0.33
via -0.6,-0.6 diameter 0.66 hole 0.33
via -1.8,-0.6 diameter 0.66 hole 0.33
via -3,-0.6 diameter 0.66 hole 0.33
via 3,0.6 diameter 0.66 hole 0.33
via 1.8,0.6 diameter 0.66 hole 0.33
via 0.6,0.6 diameter 0.66 hole 0.33
via -0.6,0.6 diameter 0.66 hole 0.33
via -1.8,0.6 diameter 0.66 hole 0.33
via -3,0.6 diameter 0.66 hole 0.33
via 3,1.8 diameter 0.66 hole 0.33
via 1.8,1.8 diameter 0.66 hole 0.33
via 0.6,1.8 diameter 0.66 hole 0.33
via -0.6,1.8 diameter 0.66 hole 0.33
via -1.8,1.8 diameter 0.66 hole 0.33
via -3,1.8 diameter 0.66 hole 0.33
via 3,3 diameter 0.66 hole 0.33
via 1.8,3 diameter 0.66 hole 0.33
via 0.6,3 diameter 0.66 hole 0.33
via -0.6,3 diameter 0.66 hole 0.33
via -1.8,3 diameter 0.66 hole 0.33
via -3,3 diameter 0.66 hole 0.33
Top Overlay:
  circle w0.25: c-5.55,3.25 r0.125
  lines w0.2: -4.6,-3.8 -4.6,-4.6 -3.8,-4.6 ; -4.6,3.8 -4.6,4.6 -3.8,4.6 ; 3.8,-4.6 4.6,-4.6 4.6,-3.8 ; 3.8,4.6 4.6,4.6 4.6,3.8
Mechanical 13:
  circle w0.1: c-3.675,3.675 r0.5
  lines w0.1: -4.575,-4.575 4.575,-4.575 4.575,4.575 -4.575,4.575 -4.575,-4.575
Mechanical 15:
  lines w0.1: -0.5,0 0.5,0 ; 0,-0.5 0,0.5 ; -5.5,-5.5 5.5,-5.5 5.5,5.5 -5.5,5.5 -5.5,-5.5
3D body: height 0.8, standoff 0, extent -4.575,-4.575 4.575,4.575

## QFN50P900X900-60V1M [mm] "QFN, 60-Leads, Body 9x9mm, Pitch 0.5mm, IPC Low Density"
height 1
pads (61):
  oval 0.85x0.3 smd: 1(-4.575,3.5) 2(-4.575,3) 3(-4.575,2.5) 4(-4.575,2) 5(-4.575,1.5) 6(-4.575,1) 7(-4.575,0.5) 8(-4.575,0) 9(-4.575,-0.5) 10(-4.575,-1) 11(-4.575,-1.5) 12(-4.575,-2) 13(-4.575,-2.5) 14(-4.575,-3) 15(-4.575,-3.5) 31(4.575,-3.5) 32(4.575,-3) 33(4.575,-2.5) 34(4.575,-2) 35(4.575,-1.5) 36(4.575,-1) 37(4.575,-0.5) 38(4.575,0) 39(4.575,0.5) 40(4.575,1) 41(4.575,1.5) 42(4.575,2) 43(4.575,2.5) 44(4.575,3) 45(4.575,3.5)
  oval 0.3x0.85 smd: 16(-3.5,-4.575) 17(-3,-4.575) 18(-2.5,-4.575) 19(-2,-4.575) 20(-1.5,-4.575) 21(-1,-4.575) 22(-0.5,-4.575) 23(0,-4.575) 24(0.5,-4.575) 25(1,-4.575) 26(1.5,-4.575) 27(2,-4.575) 28(2.5,-4.575) 29(3,-4.575) 30(3.5,-4.575) 46(3.5,4.575) 47(3,4.575) 48(2.5,4.575) 49(2,4.575) 50(1.5,4.575) 51(1,4.575) 52(0.5,4.575) 53(0,4.575) 54(-0.5,4.575) 55(-1,4.575) 56(-1.5,4.575) 57(-2,4.575) 58(-2.5,4.575) 59(-3,4.575) 60(-3.5,4.575)
  rect 7.8x7.8 smd: 61(0,0)
via 3,-3 diameter 0.66 hole 0.33
via 1.8,-3 diameter 0.66 hole 0.33
via 0.6,-3 diameter 0.66 hole 0.33
via -0.6,-3 diameter 0.66 hole 0.33
via -1.8,-3 diameter 0.66 hole 0.33
via -3,-3 diameter 0.66 hole 0.33
via 3,-1.8 diameter 0.66 hole 0.33
via 1.8,-1.8 diameter 0.66 hole 0.33
via 0.6,-1.8 diameter 0.66 hole 0.33
via -0.6,-1.8 diameter 0.66 hole 0.33
via -1.8,-1.8 diameter 0.66 hole 0.33
via -3,-1.8 diameter 0.66 hole 0.33
via 3,-0.6 diameter 0.66 hole 0.33
via 1.8,-0.6 diameter 0.66 hole 0.33
via 0.6,-0.6 diameter 0.66 hole 0.33
via -0.6,-0.6 diameter 0.66 hole 0.33
via -1.8,-0.6 diameter 0.66 hole 0.33
via -3,-0.6 diameter 0.66 hole 0.33
via 3,0.6 diameter 0.66 hole 0.33
via 1.8,0.6 diameter 0.66 hole 0.33
via 0.6,0.6 diameter 0.66 hole 0.33
via -0.6,0.6 diameter 0.66 hole 0.33
via -1.8,0.6 diameter 0.66 hole 0.33
via -3,0.6 diameter 0.66 hole 0.33
via 3,1.8 diameter 0.66 hole 0.33
via 1.8,1.8 diameter 0.66 hole 0.33
via 0.6,1.8 diameter 0.66 hole 0.33
via -0.6,1.8 diameter 0.66 hole 0.33
via -1.8,1.8 diameter 0.66 hole 0.33
via -3,1.8 diameter 0.66 hole 0.33
via 3,3 diameter 0.66 hole 0.33
via 1.8,3 diameter 0.66 hole 0.33
via 0.6,3 diameter 0.66 hole 0.33
via -0.6,3 diameter 0.66 hole 0.33
via -1.8,3 diameter 0.66 hole 0.33
via -3,3 diameter 0.66 hole 0.33
Top Overlay:
  circle w0.25: c-5.55,3.5 r0.125
  lines w0.2: -4.6,-4.05 -4.6,-4.6 -4.05,-4.6 ; -4.6,4.05 -4.6,4.6 -4.05,4.6 ; 4.05,-4.6 4.6,-4.6 4.6,-4.05 ; 4.05,4.6 4.6,4.6 4.6,4.05
Mechanical 13:
  circle w0.1: c-3.675,3.675 r0.5
  lines w0.1: -4.575,-4.575 4.575,-4.575 4.575,4.575 -4.575,4.575 -4.575,-4.575
Mechanical 15:
  lines w0.1: -0.5,0 0.5,0 ; 0,-0.5 0,0.5 ; -5.5,-5.5 5.5,-5.5 5.5,5.5 -5.5,5.5 -5.5,-5.5
3D body: height 1, standoff 0, extent -4.575,-4.575 4.575,4.575

## QFN50P900X900-60W1M [mm] "QFN, 60-Leads, Body 9x9mm, Pitch 0.5mm, IPC Low Density"
height 0.8
pads (61):
  oval 0.85x0.3 smd: 1(-4.575,3.5) 2(-4.575,3) 3(-4.575,2.5) 4(-4.575,2) 5(-4.575,1.5) 6(-4.575,1) 7(-4.575,0.5) 8(-4.575,0) 9(-4.575,-0.5) 10(-4.575,-1) 11(-4.575,-1.5) 12(-4.575,-2) 13(-4.575,-2.5) 14(-4.575,-3) 15(-4.575,-3.5) 31(4.575,-3.5) 32(4.575,-3) 33(4.575,-2.5) 34(4.575,-2) 35(4.575,-1.5) 36(4.575,-1) 37(4.575,-0.5) 38(4.575,0) 39(4.575,0.5) 40(4.575,1) 41(4.575,1.5) 42(4.575,2) 43(4.575,2.5) 44(4.575,3) 45(4.575,3.5)
  oval 0.3x0.85 smd: 16(-3.5,-4.575) 17(-3,-4.575) 18(-2.5,-4.575) 19(-2,-4.575) 20(-1.5,-4.575) 21(-1,-4.575) 22(-0.5,-4.575) 23(0,-4.575) 24(0.5,-4.575) 25(1,-4.575) 26(1.5,-4.575) 27(2,-4.575) 28(2.5,-4.575) 29(3,-4.575) 30(3.5,-4.575) 46(3.5,4.575) 47(3,4.575) 48(2.5,4.575) 49(2,4.575) 50(1.5,4.575) 51(1,4.575) 52(0.5,4.575) 53(0,4.575) 54(-0.5,4.575) 55(-1,4.575) 56(-1.5,4.575) 57(-2,4.575) 58(-2.5,4.575) 59(-3,4.575) 60(-3.5,4.575)
  rect 7.8x7.8 smd: 61(0,0)
via 3,-3 diameter 0.66 hole 0.33
via 1.8,-3 diameter 0.66 hole 0.33
via 0.6,-3 diameter 0.66 hole 0.33
via -0.6,-3 diameter 0.66 hole 0.33
via -1.8,-3 diameter 0.66 hole 0.33
via -3,-3 diameter 0.66 hole 0.33
via 3,-1.8 diameter 0.66 hole 0.33
via 1.8,-1.8 diameter 0.66 hole 0.33
via 0.6,-1.8 diameter 0.66 hole 0.33
via -0.6,-1.8 diameter 0.66 hole 0.33
via -1.8,-1.8 diameter 0.66 hole 0.33
via -3,-1.8 diameter 0.66 hole 0.33
via 3,-0.6 diameter 0.66 hole 0.33
via 1.8,-0.6 diameter 0.66 hole 0.33
via 0.6,-0.6 diameter 0.66 hole 0.33
via -0.6,-0.6 diameter 0.66 hole 0.33
via -1.8,-0.6 diameter 0.66 hole 0.33
via -3,-0.6 diameter 0.66 hole 0.33
via 3,0.6 diameter 0.66 hole 0.33
via 1.8,0.6 diameter 0.66 hole 0.33
via 0.6,0.6 diameter 0.66 hole 0.33
via -0.6,0.6 diameter 0.66 hole 0.33
via -1.8,0.6 diameter 0.66 hole 0.33
via -3,0.6 diameter 0.66 hole 0.33
via 3,1.8 diameter 0.66 hole 0.33
via 1.8,1.8 diameter 0.66 hole 0.33
via 0.6,1.8 diameter 0.66 hole 0.33
via -0.6,1.8 diameter 0.66 hole 0.33
via -1.8,1.8 diameter 0.66 hole 0.33
via -3,1.8 diameter 0.66 hole 0.33
via 3,3 diameter 0.66 hole 0.33
via 1.8,3 diameter 0.66 hole 0.33
via 0.6,3 diameter 0.66 hole 0.33
via -0.6,3 diameter 0.66 hole 0.33
via -1.8,3 diameter 0.66 hole 0.33
via -3,3 diameter 0.66 hole 0.33
Top Overlay:
  circle w0.25: c-5.55,3.5 r0.125
  lines w0.2: -4.6,-4.05 -4.6,-4.6 -4.05,-4.6 ; -4.6,4.05 -4.6,4.6 -4.05,4.6 ; 4.05,-4.6 4.6,-4.6 4.6,-4.05 ; 4.05,4.6 4.6,4.6 4.6,4.05
Mechanical 13:
  circle w0.1: c-3.675,3.675 r0.5
  lines w0.1: -4.575,-4.575 4.575,-4.575 4.575,4.575 -4.575,4.575 -4.575,-4.575
Mechanical 15:
  lines w0.1: -0.5,0 0.5,0 ; 0,-0.5 0,0.5 ; -5.5,-5.5 5.5,-5.5 5.5,5.5 -5.5,5.5 -5.5,-5.5
3D body: height 0.8, standoff 0, extent -4.575,-4.575 4.575,4.575